# EAGLE library part SM_1221_DI_16X24VDC (library e-sps)
SM 1221 DI 16 x 24 VDC Source: s71200_easy_book_de-DE_de-DE.pdf
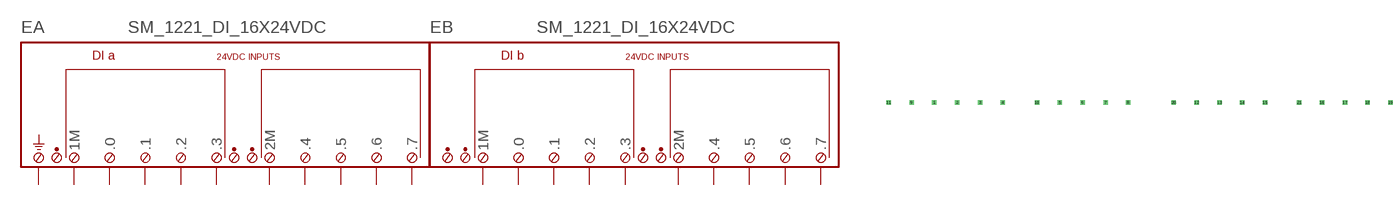
[diagram p5: symbol with the pads of SM_1221_DI_16X24VDC; footprint SM_1221_DI_16X24VDC]

Designator prefix E; gates A=SM_1221_DI_16X24VDC-1 B=SM_1221_DI_16X24VDC-2

## SM_1221_DI_16X24VDC  [SM_1221_DI_16X24VDC]
1  A:.0  pas
2  A:.1  pas
3  A:.2  pas
4  A:.3  pas
5  A:.4  pas
6  A:.5  pas
7  A:.6  pas
8  A:.7  pas
9  A:1M  pas
10  A:2M  pas
11  A:PE  pas
12  B:.0  pas
13  B:.1  pas
14  B:.2  pas
15  B:.3  pas
16  B:.4  pas
17  B:.5  pas
18  B:.6  pas
19  B:.7  pas
20  B:1M  pas
21  B:2M  pas

## Footprint SM_1221_DI_16X24VDC (pad centres in mm)
Dummy
drill 0.5 pad 1 square: 1 -45.72,-20.32; 2 -40.64,-20.32; 3 -35.56,-20.32; 4 -30.48,-20.32; 5 -17.78,-20.32; 6 -12.7,-20.32; 7 -7.62,-20.32; 8 -2.54,-20.32; 9 -50.8,-20.32; 10 -22.86,-20.32; 11 -55.88,-20.32; 12 12.7,-20.32; 13 17.78,-20.32; 14 22.86,-20.32; 15 27.94,-20.32; 16 40.64,-20.32; 17 45.72,-20.32; 18 50.8,-20.32; 19 55.88,-20.32; 20 7.62,-20.32; 21 35.56,-20.32